# Altium integrated library ST Microcontroller 8-Bit.IntLib: 1326 symbols (part 8 of 45)
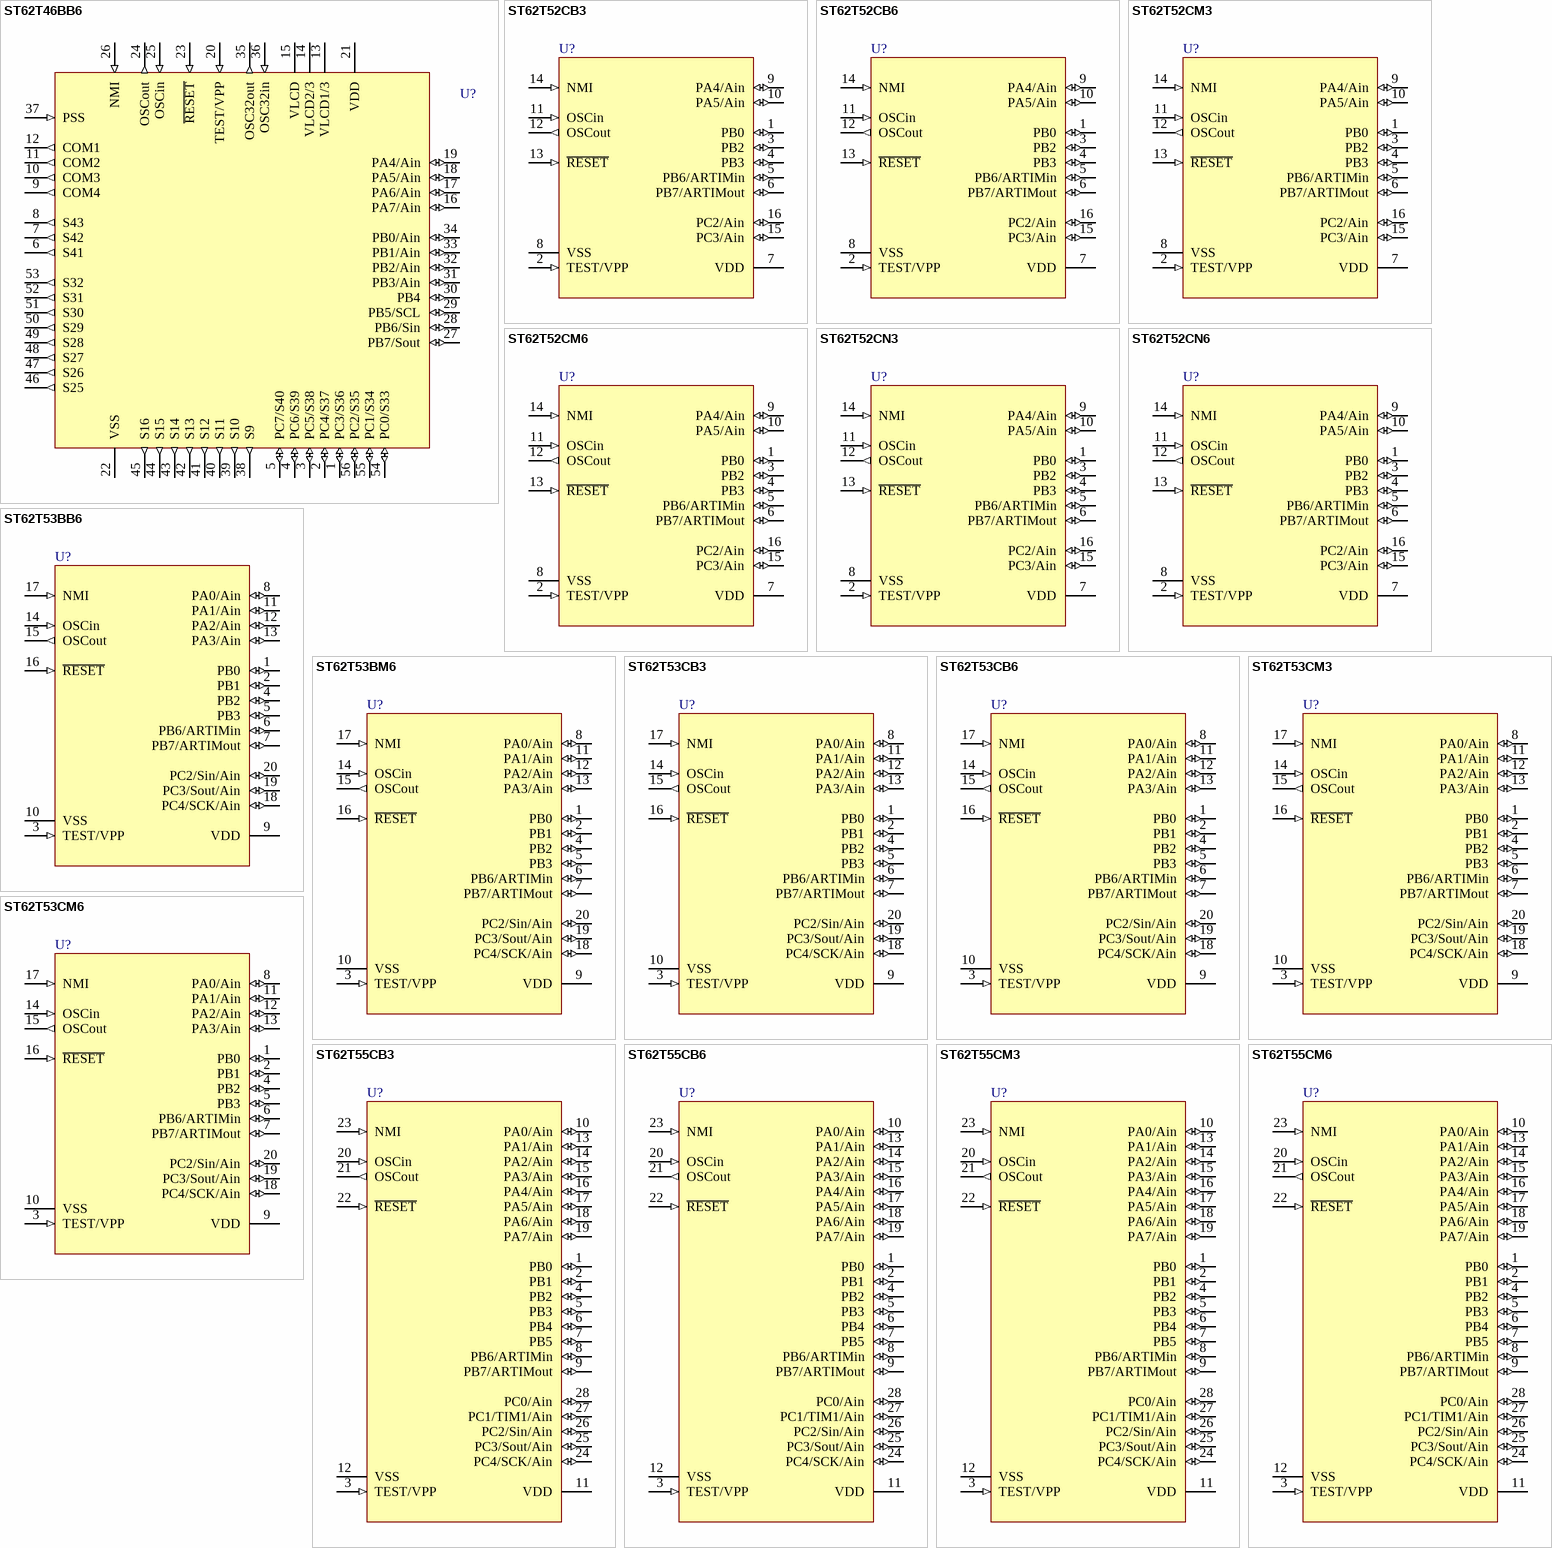
[diagram p174: symbols ST62T46BB6 to ST62T55CM6]

## ST62T46BB6
designator U?
8-Bit OTP MCU with LCD Driver, EEPROM and A/D Converter, 56-Pin PDIP, Industrial; Note: Pins 27 to 30 can also sink 20mA for direct LED or TRIAC drive.; Published: 26-May-2004; LatestRevisionDate: 06-Jun-2005; LatestRevisionNote: Stylized 3D Model Added.; DatasheetVersion: rev2.6, Jul-2001; PackageVersion: Jan-2002; PackageReference: PSDIP56; Publisher: Altium Limited; PackageDescription: DIP, Plastic Shrink; 56 Leads; Row Spacing 15.24 mm; Pitch 1.78 mm; ComponentLink1Description: Manufacturer Link; ComponentLink1URL: http://www.st.com/; ComponentLink2Description: Datasheet; ComponentLink2URL: http://www.st.com/stonline/products/literature/ds/4994/st6246b.pdf
footprint PSDIP56 (DIP, Plastic Shrink; 56 Leads; Row Spacing 15.24 mm; Pitch 1.78 mm)
3D model PSDIP56 (DIP, Plastic Shrink; 56 Leads; Row Spacing 15.24 mm; Pitch 1.78 mm)
pins: 1 PC3/S36 (io), 2 PC4/S37 (io), 3 PC5/S38 (io), 4 PC6/S39 (io), 5 PC7/S40 (io), 6 S41 (out), 7 S42 (out), 8 S43 (out), 9 COM4 (out), 10 COM3 (out), 11 COM2 (out), 12 COM1 (out), 13 VLCD1/3 (power), 14 VLCD2/3 (power), 15 VLCD (power), 16 PA7/Ain (io), 17 PA6/Ain (io), 18 PA5/Ain (io), 19 PA4/Ain (io), 20 TEST/VPP (in), 21 VDD (power), 22 VSS (power), 23 ~{RESET} (in), 24 OSCout (out), 25 OSCin (in), 26 NMI (in), 27 PB7/Sout (io), 28 PB6/Sin (io), 29 PB5/SCL (io), 30 PB4 (io), 31 PB3/Ain (io), 32 PB2/Ain (io), 33 PB1/Ain (io), 34 PB0/Ain (io), 35 OSC32out (out), 36 OSC32in (in), 37 PSS (in), 38 S9 (out), 39 S10 (out), 40 S11 (out), 41 S12 (out), 42 S13 (out), 43 S14 (out), 44 S15 (out), 45 S16 (out), 46 S25 (out), 47 S26 (out), 48 S27 (out), 49 S28 (out), 50 S29 (out), 51 S30 (out), 52 S31 (out), 53 S32 (out), 54 PC0/S33 (io), 55 PC1/S34 (io), 56 PC2/S35 (io)

## ST62T52CB3
designator U?
8-Bit OTP MCU with A/D Converter, Safe Reset, Auto-Reload Timer and EEPROM, 16-Pin PDIP, Automotive; Note: Pins 3 to 5 can also sink 20mA for direct LED or TRIAC drive.; Published: 26-May-2004; LatestRevisionDate: 06-Jun-2005; LatestRevisionNote: Stylized 3D Model Added.; DatasheetVersion: rev3.0, Feb-2002; PackageVersion: Dec-2003; PackageReference: PDIP16; Publisher: Altium Limited; PackageDescription: DIP; 16 Leads; Row Spacing 7.62 mm; Pitch 2.54 mm; ComponentLink1Description: Manufacturer Link; ComponentLink1URL: http://www.st.com/; ComponentLink2Description: Datasheet; ComponentLink2URL: http://www.st.com/stonline/products/literature/ds/6217/st6252c.pdf
footprint PDIP16 (DIP; 16 Leads; Row Spacing 7.62 mm; Pitch 2.54 mm)
3D model PDIP16 (DIP; 16 Leads; Row Spacing 7.62 mm; Pitch 2.54 mm)
pins: 1 PB0 (io), 2 TEST/VPP (in), 3 PB2 (io), 4 PB3 (io), 5 PB6/ARTIMin (io), 6 PB7/ARTIMout (io), 7 VDD (power), 8 VSS (power), 9 PA4/Ain (io), 10 PA5/Ain (io), 11 OSCin (in), 12 OSCout (out), 13 ~{RESET} (in), 14 NMI (in), 15 PC3/Ain (io), 16 PC2/Ain (io)

## ST62T52CB6
designator U?
8-Bit OTP MCU with A/D Converter, Safe Reset, Auto-Reload Timer and EEPROM, 16-Pin PDIP, Industrial; Note: Pins 3 to 5 can also sink 20mA for direct LED or TRIAC drive.; Published: 26-May-2004; LatestRevisionDate: 06-Jun-2005; LatestRevisionNote: Stylized 3D Model Added.; DatasheetVersion: rev3.0, Feb-2002; PackageVersion: Dec-2003; PackageReference: PDIP16; Publisher: Altium Limited; PackageDescription: DIP; 16 Leads; Row Spacing 7.62 mm; Pitch 2.54 mm; ComponentLink1Description: Manufacturer Link; ComponentLink1URL: http://www.st.com/; ComponentLink2Description: Datasheet; ComponentLink2URL: http://www.st.com/stonline/products/literature/ds/6217/st6252c.pdf
footprint PDIP16 (DIP; 16 Leads; Row Spacing 7.62 mm; Pitch 2.54 mm)
3D model PDIP16 (DIP; 16 Leads; Row Spacing 7.62 mm; Pitch 2.54 mm)
pins: 1 PB0 (io), 2 TEST/VPP (in), 3 PB2 (io), 4 PB3 (io), 5 PB6/ARTIMin (io), 6 PB7/ARTIMout (io), 7 VDD (power), 8 VSS (power), 9 PA4/Ain (io), 10 PA5/Ain (io), 11 OSCin (in), 12 OSCout (out), 13 ~{RESET} (in), 14 NMI (in), 15 PC3/Ain (io), 16 PC2/Ain (io)

## ST62T52CM3
designator U?
8-Bit OTP MCU with A/D Converter, Safe Reset, Auto-Reload Timer and EEPROM, 16-Pin SOIC, Automotive; Note: Pins 3 to 5 can also sink 20mA for direct LED or TRIAC drive.; Published: 26-May-2004; LatestRevisionDate: 13-Apr-2006; LatestRevisionNote: IPC-7351 Footprint Added.; DatasheetVersion: rev3.0, Feb-2002; PackageVersion: Apr-1998; PackageReference: SO16W; Publisher: Altium Limited; PackageDescription: 16-Pin Small Outline Integrated Circuit 1.27 mm Pitch; Code_JEDEC: MS-013-AA; Code_IPC: SOIC127P1030-16; ComponentLink1Description: Manufacturer Link; ComponentLink1URL: http://www.st.com/; ComponentLink2Description: Datasheet; ComponentLink2URL: http://www.st.com/stonline/products/literature/ds/6217/st6252c.pdf
footprint SO16W_N (SOIC, 16-Leads, Body 10.3x7.5mm, Pitch 1.27mm, IPC Medium Density)
footprint SO16W_L (SOIC, 16-Leads, Body 10.3x7.5mm, Pitch 1.27mm, IPC High Density)
footprint SO16W_M (SOIC, 16-Leads, Body 10.3x7.5mm, Pitch 1.27mm, IPC Low Density)
3D model SO16W (16-Pin Small Outline Integrated Circuit 1.27 mm Pitch)
pins: 1 PB0 (io), 2 TEST/VPP (in), 3 PB2 (io), 4 PB3 (io), 5 PB6/ARTIMin (io), 6 PB7/ARTIMout (io), 7 VDD (power), 8 VSS (power), 9 PA4/Ain (io), 10 PA5/Ain (io), 11 OSCin (in), 12 OSCout (out), 13 ~{RESET} (in), 14 NMI (in), 15 PC3/Ain (io), 16 PC2/Ain (io)

## ST62T52CM6
designator U?
8-Bit OTP MCU with A/D Converter, Safe Reset, Auto-Reload Timer and EEPROM, 16-Pin SOIC, Industrial; Note: Pins 3 to 5 can also sink 20mA for direct LED or TRIAC drive.; Published: 26-May-2004; LatestRevisionDate: 13-Apr-2006; LatestRevisionNote: IPC-7351 Footprint Added.; DatasheetVersion: rev3.0, Feb-2002; PackageVersion: Apr-1998; PackageReference: SO16W; Publisher: Altium Limited; PackageDescription: 16-Pin Small Outline Integrated Circuit 1.27 mm Pitch; Code_JEDEC: MS-013-AA; Code_IPC: SOIC127P1030-16; ComponentLink1Description: Manufacturer Link; ComponentLink1URL: http://www.st.com/; ComponentLink2Description: Datasheet; ComponentLink2URL: http://www.st.com/stonline/products/literature/ds/6217/st6252c.pdf
footprint SO16W_N (SOIC, 16-Leads, Body 10.3x7.5mm, Pitch 1.27mm, IPC Medium Density)
footprint SO16W_L (SOIC, 16-Leads, Body 10.3x7.5mm, Pitch 1.27mm, IPC High Density)
footprint SO16W_M (SOIC, 16-Leads, Body 10.3x7.5mm, Pitch 1.27mm, IPC Low Density)
3D model SO16W (16-Pin Small Outline Integrated Circuit 1.27 mm Pitch)
pins: 1 PB0 (io), 2 TEST/VPP (in), 3 PB2 (io), 4 PB3 (io), 5 PB6/ARTIMin (io), 6 PB7/ARTIMout (io), 7 VDD (power), 8 VSS (power), 9 PA4/Ain (io), 10 PA5/Ain (io), 11 OSCin (in), 12 OSCout (out), 13 ~{RESET} (in), 14 NMI (in), 15 PC3/Ain (io), 16 PC2/Ain (io)

## ST62T52CN3
designator U?
8-Bit OTP MCU with A/D Converter, Safe Reset, Auto-Reload Timer and EEPROM, 16-Pin SSOP, Automotive; Note: Pins 3 to 5 can also sink 20mA for direct LED or TRIAC drive.; Published: 26-May-2004; LatestRevisionDate: 06-Jun-2005; LatestRevisionNote: Stylized 3D Model Added.; DatasheetVersion: rev3.0, Feb-2002; PackageVersion: Oct-2003; PackageReference: SSOP16; Publisher: Altium Limited; PackageDescription: SSOP, Plastic; 16 Leads; Body Width 5.3 mm; Pitch 0.65 mm; ComponentLink1Description: Manufacturer Link; ComponentLink1URL: http://www.st.com/; ComponentLink2Description: Datasheet; ComponentLink2URL: http://www.st.com/stonline/products/literature/ds/6217/st6252c.pdf
footprint SSOP16 (SSOP, Plastic; 16 Leads; Body Width 5.3 mm; Pitch 0.65 mm)
3D model SSOP16 (SSOP, Plastic; 16 Leads; Body Width 5.3 mm; Pitch 0.65 mm)
pins: 1 PB0 (io), 2 TEST/VPP (in), 3 PB2 (io), 4 PB3 (io), 5 PB6/ARTIMin (io), 6 PB7/ARTIMout (io), 7 VDD (power), 8 VSS (power), 9 PA4/Ain (io), 10 PA5/Ain (io), 11 OSCin (in), 12 OSCout (out), 13 ~{RESET} (in), 14 NMI (in), 15 PC3/Ain (io), 16 PC2/Ain (io)

## ST62T52CN6
designator U?
8-Bit OTP MCU with A/D Converter, Safe Reset, Auto-Reload Timer and EEPROM, 16-Pin SSOP, Industrial; Note: Pins 3 to 5 can also sink 20mA for direct LED or TRIAC drive.; Published: 26-May-2004; LatestRevisionDate: 06-Jun-2005; LatestRevisionNote: Stylized 3D Model Added.; DatasheetVersion: rev3.0, Feb-2002; PackageVersion: Oct-2003; PackageReference: SSOP16; Publisher: Altium Limited; PackageDescription: SSOP, Plastic; 16 Leads; Body Width 5.3 mm; Pitch 0.65 mm; ComponentLink1Description: Manufacturer Link; ComponentLink1URL: http://www.st.com/; ComponentLink2Description: Datasheet; ComponentLink2URL: http://www.st.com/stonline/products/literature/ds/6217/st6252c.pdf
footprint SSOP16 (SSOP, Plastic; 16 Leads; Body Width 5.3 mm; Pitch 0.65 mm)
3D model SSOP16 (SSOP, Plastic; 16 Leads; Body Width 5.3 mm; Pitch 0.65 mm)
pins: 1 PB0 (io), 2 TEST/VPP (in), 3 PB2 (io), 4 PB3 (io), 5 PB6/ARTIMin (io), 6 PB7/ARTIMout (io), 7 VDD (power), 8 VSS (power), 9 PA4/Ain (io), 10 PA5/Ain (io), 11 OSCin (in), 12 OSCout (out), 13 ~{RESET} (in), 14 NMI (in), 15 PC3/Ain (io), 16 PC2/Ain (io)

## ST62T53BB6
designator U?
8-Bit OTP MCU with A/D Converter, Auto-Reload Timer, EEPROM and SPI; Published: 24-Aug-2001; LatestRevisionDate: 06-Jun-2005; LatestRevisionNote: Stylized 3D Model Added.; DatasheetVersion: Apr-1998; PackageVersion: Jun-1998; PackageReference: DIP20; Publisher: Altium Limited; PackageDescription: DIP; 20 Leads; Row Spacing 7.62 mm; Pitch 2.54 mm; Code_JEDEC: MS-015-AE; ComponentLink1Description: Manufacturer Link; ComponentLink1URL: http://www.st.com/
footprint DIP20 (DIP; 20 Leads; Row Spacing 7.62 mm; Pitch 2.54 mm)
3D model DIP20 (DIP; 20 Leads; Row Spacing 7.62 mm; Pitch 2.54 mm)
pins: 1 PB0 (io), 2 PB1 (io), 3 TEST/VPP (in), 4 PB2 (io), 5 PB3 (io), 6 PB6/ARTIMin (io), 7 PB7/ARTIMout (io), 8 PA0/Ain (io), 9 VDD (power), 10 VSS (power), 11 PA1/Ain (io), 12 PA2/Ain (io), 13 PA3/Ain (io), 14 OSCin (in), 15 OSCout (out), 16 ~{RESET} (in), 17 NMI (in), 18 PC4/SCK/Ain (io), 19 PC3/Sout/Ain (io), 20 PC2/Sin/Ain (io)

## ST62T53BM6
designator U?
8-Bit OTP MCU with A/D Converter, Auto-Reload Timer, EEPROM and SPI; Published: 24-Aug-2001; LatestRevisionDate: 13-Apr-2006; LatestRevisionNote: IPC-7351 Footprint Added.; DatasheetVersion: Apr-1998; PackageVersion: Jul-2001; PackageReference: SO20; Publisher: Altium Limited; PackageDescription: 20-Pin Plastic Small Outline Integrated Circuit 1.27 mm Pitch; Code_JEDEC: MS-013-AC; Code_IPC: SOIC127P1030-20; ComponentLink1Description: Manufacturer Link; ComponentLink1URL: http://www.st.com/
footprint SO20_N (SOIC, 20-Leads, Body 12.8x7.5mm, Pitch 1.27mm, IPC Medium Density)
footprint SO20_L (SOIC, 20-Leads, Body 12.8x7.5mm, Pitch 1.27mm, IPC High Density)
footprint SO20_M (SOIC, 20-Leads, Body 12.8x7.5mm, Pitch 1.27mm, IPC Low Density)
3D model SO20 (20-Pin Plastic Small Outline Integrated Circuit 1.27 mm Pitch)
pins: 1 PB0 (io), 2 PB1 (io), 3 TEST/VPP (in), 4 PB2 (io), 5 PB3 (io), 6 PB6/ARTIMin (io), 7 PB7/ARTIMout (io), 8 PA0/Ain (io), 9 VDD (power), 10 VSS (power), 11 PA1/Ain (io), 12 PA2/Ain (io), 13 PA3/Ain (io), 14 OSCin (in), 15 OSCout (out), 16 ~{RESET} (in), 17 NMI (in), 18 PC4/SCK/Ain (io), 19 PC3/Sout/Ain (io), 20 PC2/Sin/Ain (io)

## ST62T53CB3
designator U?
8-Bit OTP MCU with A/D Converter, Safe Reset, Auto-Reload Timer, EEPROM and SPI, 20-Pin PDIP, Automotive; Note: Pins 1, 2, 4 and 5 can also sink 30mA for direct LED or TRIAC drive.; Published: 26-May-2004; LatestRevisionDate: 06-Jun-2005; LatestRevisionNote: Stylized 3D Model Added.; DatasheetVersion: rev2.8, Jul-2001; PackageVersion: Jul-2003; PackageReference: PDIP20; Publisher: Altium Limited; PackageDescription: DIP; 20 Leads; Row Spacing 7.62 mm; Pitch 2.54 mm; Code_JEDEC: MS-001-AD; ComponentLink1Description: Manufacturer Link; ComponentLink1URL: http://www.st.com/; ComponentLink2Description: Datasheet; ComponentLink2URL: http://www.st.com/stonline/products/literature/ds/6215/st6253c.pdf
footprint PDIP20 (DIP; 20 Leads; Row Spacing 7.62 mm; Pitch 2.54 mm)
3D model PDIP20 (DIP; 20 Leads; Row Spacing 7.62 mm; Pitch 2.54 mm)
pins: 1 PB0 (io), 2 PB1 (io), 3 TEST/VPP (in), 4 PB2 (io), 5 PB3 (io), 6 PB6/ARTIMin (io), 7 PB7/ARTIMout (io), 8 PA0/Ain (io), 9 VDD (power), 10 VSS (power), 11 PA1/Ain (io), 12 PA2/Ain (io), 13 PA3/Ain (io), 14 OSCin (in), 15 OSCout (out), 16 ~{RESET} (in), 17 NMI (in), 18 PC4/SCK/Ain (io), 19 PC3/Sout/Ain (io), 20 PC2/Sin/Ain (io)

## ST62T53CB6
designator U?
8-Bit OTP MCU with A/D Converter, Safe Reset, Auto-Reload Timer, EEPROM and SPI, 20-Pin PDIP, Industrial; Note: Pins 1, 2, 4 and 5 can also sink 30mA for direct LED or TRIAC drive.; Published: 26-May-2004; LatestRevisionDate: 06-Jun-2005; LatestRevisionNote: Stylized 3D Model Added.; DatasheetVersion: rev2.8, Jul-2001; PackageVersion: Jul-2003; PackageReference: PDIP20; Publisher: Altium Limited; PackageDescription: DIP; 20 Leads; Row Spacing 7.62 mm; Pitch 2.54 mm; Code_JEDEC: MS-001-AD; ComponentLink1Description: Manufacturer Link; ComponentLink1URL: http://www.st.com/; ComponentLink2Description: Datasheet; ComponentLink2URL: http://www.st.com/stonline/products/literature/ds/6215/st6253c.pdf
footprint PDIP20 (DIP; 20 Leads; Row Spacing 7.62 mm; Pitch 2.54 mm)
3D model PDIP20 (DIP; 20 Leads; Row Spacing 7.62 mm; Pitch 2.54 mm)
pins: 1 PB0 (io), 2 PB1 (io), 3 TEST/VPP (in), 4 PB2 (io), 5 PB3 (io), 6 PB6/ARTIMin (io), 7 PB7/ARTIMout (io), 8 PA0/Ain (io), 9 VDD (power), 10 VSS (power), 11 PA1/Ain (io), 12 PA2/Ain (io), 13 PA3/Ain (io), 14 OSCin (in), 15 OSCout (out), 16 ~{RESET} (in), 17 NMI (in), 18 PC4/SCK/Ain (io), 19 PC3/Sout/Ain (io), 20 PC2/Sin/Ain (io)

## ST62T53CM3
designator U?
8-Bit OTP MCU with A/D Converter, Safe Reset, Auto-Reload Timer, EEPROM and SPI, 20-Pin SOIC, Automotive; Note: Pins 1, 2, 4 and 5 can also sink 30mA for direct LED or TRIAC drive.; Published: 26-May-2004; LatestRevisionDate: 13-Apr-2006; LatestRevisionNote: IPC-7351 Footprint Added.; DatasheetVersion: rev2.8, Jul-2001; PackageVersion: Jul-2001; PackageReference: SO20; Publisher: Altium Limited; PackageDescription: 20-Pin Plastic Small Outline Integrated Circuit 1.27 mm Pitch; Code_JEDEC: MS-013-AC; Code_IPC: SOIC127P1030-20; ComponentLink1Description: Manufacturer Link; ComponentLink1URL: http://www.st.com/; ComponentLink2Description: Datasheet; ComponentLink2URL: http://www.st.com/stonline/products/literature/ds/6215/st6253c.pdf
footprint SO20_N (SOIC, 20-Leads, Body 12.8x7.5mm, Pitch 1.27mm, IPC Medium Density)
footprint SO20_L (SOIC, 20-Leads, Body 12.8x7.5mm, Pitch 1.27mm, IPC High Density)
footprint SO20_M (SOIC, 20-Leads, Body 12.8x7.5mm, Pitch 1.27mm, IPC Low Density)
3D model SO20 (20-Pin Plastic Small Outline Integrated Circuit 1.27 mm Pitch)
pins: 1 PB0 (io), 2 PB1 (io), 3 TEST/VPP (in), 4 PB2 (io), 5 PB3 (io), 6 PB6/ARTIMin (io), 7 PB7/ARTIMout (io), 8 PA0/Ain (io), 9 VDD (power), 10 VSS (power), 11 PA1/Ain (io), 12 PA2/Ain (io), 13 PA3/Ain (io), 14 OSCin (in), 15 OSCout (out), 16 ~{RESET} (in), 17 NMI (in), 18 PC4/SCK/Ain (io), 19 PC3/Sout/Ain (io), 20 PC2/Sin/Ain (io)

## ST62T53CM6
designator U?
8-Bit OTP MCU with A/D Converter, Safe Reset, Auto-Reload Timer, EEPROM and SPI, 20-Pin SOIC, Industrial; Note: Pins 1, 2, 4 and 5 can also sink 30mA for direct LED or TRIAC drive.; Published: 26-May-2004; LatestRevisionDate: 13-Apr-2006; LatestRevisionNote: IPC-7351 Footprint Added.; DatasheetVersion: rev2.8, Jul-2001; PackageVersion: Jul-2001; PackageReference: SO20; Publisher: Altium Limited; PackageDescription: 20-Pin Plastic Small Outline Integrated Circuit 1.27 mm Pitch; Code_JEDEC: MS-013-AC; Code_IPC: SOIC127P1030-20; ComponentLink1Description: Manufacturer Link; ComponentLink1URL: http://www.st.com/; ComponentLink2Description: Datasheet; ComponentLink2URL: http://www.st.com/stonline/products/literature/ds/6215/st6253c.pdf
footprint SO20_N (SOIC, 20-Leads, Body 12.8x7.5mm, Pitch 1.27mm, IPC Medium Density)
footprint SO20_L (SOIC, 20-Leads, Body 12.8x7.5mm, Pitch 1.27mm, IPC High Density)
footprint SO20_M (SOIC, 20-Leads, Body 12.8x7.5mm, Pitch 1.27mm, IPC Low Density)
3D model SO20 (20-Pin Plastic Small Outline Integrated Circuit 1.27 mm Pitch)
pins: 1 PB0 (io), 2 PB1 (io), 3 TEST/VPP (in), 4 PB2 (io), 5 PB3 (io), 6 PB6/ARTIMin (io), 7 PB7/ARTIMout (io), 8 PA0/Ain (io), 9 VDD (power), 10 VSS (power), 11 PA1/Ain (io), 12 PA2/Ain (io), 13 PA3/Ain (io), 14 OSCin (in), 15 OSCout (out), 16 ~{RESET} (in), 17 NMI (in), 18 PC4/SCK/Ain (io), 19 PC3/Sout/Ain (io), 20 PC2/Sin/Ain (io)

## ST62T55CB3
designator U?
8-Bit OTP MCU with A/D Converter, Safe Reset, Auto-Reload Timer, EEPROM and SPI, 28-Pin PDIP, Automotive; Note: Pins 1, 2 and 4-7 can also sink 30mA for direct LED or TRIAC drive.; Published: 26-May-2004; LatestRevisionDate: 06-Jun-2005; LatestRevisionNote: Stylized 3D Model Added.; DatasheetVersion: rev2.9, Jul-2001; PackageVersion: Oct-2003; PackageReference: DIP28; Publisher: Altium Limited; PackageDescription: DIP; 28 Leads; Row Spacing 15.24 mm; Pitch 2.54 mm; Code_JEDEC: MS-011-AB; ComponentLink1Description: Manufacturer Link; ComponentLink1URL: http://www.st.com/; ComponentLink2Description: Datasheet; ComponentLink2URL: http://www.st.com/stonline/products/literature/ds/6220/st6255c.pdf
footprint DIP28 (DIP; 28 Leads; Row Spacing 15.24 mm; Pitch 2.54 mm)
3D model DIP28 (DIP; 28 Leads; Row Spacing 15.24 mm; Pitch 2.54 mm)
pins: 1 PB0 (io), 2 PB1 (io), 3 TEST/VPP (in), 4 PB2 (io), 5 PB3 (io), 6 PB4 (io), 7 PB5 (io), 8 PB6/ARTIMin (io), 9 PB7/ARTIMout (io), 10 PA0/Ain (io), 11 VDD (power), 12 VSS (power), 13 PA1/Ain (io), 14 PA2/Ain (io), 15 PA3/Ain (io), 16 PA4/Ain (io), 17 PA5/Ain (io), 18 PA6/Ain (io), 19 PA7/Ain (io), 20 OSCin (in), 21 OSCout (out), 22 ~{RESET} (in), 23 NMI (in), 24 PC4/SCK/Ain (io), 25 PC3/Sout/Ain (io), 26 PC2/Sin/Ain (io), 27 PC1/TIM1/Ain (io), 28 PC0/Ain (io)

## ST62T55CB6
designator U?
8-Bit OTP MCU with A/D Converter, Safe Reset, Auto-Reload Timer, EEPROM and SPI, 28-Pin PDIP, Industrial; Note: Pins 1, 2 and 4-7 can also sink 30mA for direct LED or TRIAC drive.; Published: 26-May-2004; LatestRevisionDate: 06-Jun-2005; LatestRevisionNote: Stylized 3D Model Added.; DatasheetVersion: rev2.9, Jul-2001; PackageVersion: Oct-2003; PackageReference: DIP28; Publisher: Altium Limited; PackageDescription: DIP; 28 Leads; Row Spacing 15.24 mm; Pitch 2.54 mm; Code_JEDEC: MS-011-AB; ComponentLink1Description: Manufacturer Link; ComponentLink1URL: http://www.st.com/; ComponentLink2Description: Datasheet; ComponentLink2URL: http://www.st.com/stonline/products/literature/ds/6220/st6255c.pdf
footprint DIP28 (DIP; 28 Leads; Row Spacing 15.24 mm; Pitch 2.54 mm)
3D model DIP28 (DIP; 28 Leads; Row Spacing 15.24 mm; Pitch 2.54 mm)
pins: 1 PB0 (io), 2 PB1 (io), 3 TEST/VPP (in), 4 PB2 (io), 5 PB3 (io), 6 PB4 (io), 7 PB5 (io), 8 PB6/ARTIMin (io), 9 PB7/ARTIMout (io), 10 PA0/Ain (io), 11 VDD (power), 12 VSS (power), 13 PA1/Ain (io), 14 PA2/Ain (io), 15 PA3/Ain (io), 16 PA4/Ain (io), 17 PA5/Ain (io), 18 PA6/Ain (io), 19 PA7/Ain (io), 20 OSCin (in), 21 OSCout (out), 22 ~{RESET} (in), 23 NMI (in), 24 PC4/SCK/Ain (io), 25 PC3/Sout/Ain (io), 26 PC2/Sin/Ain (io), 27 PC1/TIM1/Ain (io), 28 PC0/Ain (io)

## ST62T55CM3
designator U?
8-Bit OTP MCU with A/D Converter, Safe Reset, Auto-Reload Timer, EEPROM and SPI, 28-Pin SOIC, Automotive; Note: Pins 1, 2 and 4-7 can also sink 30mA for direct LED or TRIAC drive.; Published: 26-May-2004; LatestRevisionDate: 13-Apr-2006; LatestRevisionNote: IPC-7351 Footprint Added.; DatasheetVersion: rev2.9, Jul-2001; PackageVersion: Jul-2001; PackageReference: SO28; Publisher: Altium Limited; PackageDescription: 28-Pin Plastic Small Outline Integrated Circuit 1.27 mm Pitch; ComponentLink1Description: Manufacturer Link; ComponentLink1URL: http://www.st.com/; ComponentLink2Description: Datasheet; ComponentLink2URL: http://www.st.com/stonline/products/literature/ds/6220/st6255c.pdf
footprint SO28_N (SOIC, 28-Leads, Body 17.9x7.5mm, Pitch 1.27mm, IPC Medium Density)
footprint SO28_L (SOIC, 28-Leads, Body 17.9x7.5mm, Pitch 1.27mm, IPC High Density)
footprint SO28_M (SOIC, 28-Leads, Body 17.9x7.5mm, Pitch 1.27mm, IPC Low Density)
3D model SO28 (28-Pin Plastic Small Outline Integrated Circuit 1.27 mm Pitch)
pins: 1 PB0 (io), 2 PB1 (io), 3 TEST/VPP (in), 4 PB2 (io), 5 PB3 (io), 6 PB4 (io), 7 PB5 (io), 8 PB6/ARTIMin (io), 9 PB7/ARTIMout (io), 10 PA0/Ain (io), 11 VDD (power), 12 VSS (power), 13 PA1/Ain (io), 14 PA2/Ain (io), 15 PA3/Ain (io), 16 PA4/Ain (io), 17 PA5/Ain (io), 18 PA6/Ain (io), 19 PA7/Ain (io), 20 OSCin (in), 21 OSCout (out), 22 ~{RESET} (in), 23 NMI (in), 24 PC4/SCK/Ain (io), 25 PC3/Sout/Ain (io), 26 PC2/Sin/Ain (io), 27 PC1/TIM1/Ain (io), 28 PC0/Ain (io)

## ST62T55CM6
designator U?
8-Bit OTP MCU with A/D Converter, Safe Reset, Auto-Reload Timer, EEPROM and SPI, 28-Pin SOIC, Industrial; Note: Pins 1, 2 and 4-7 can also sink 30mA for direct LED or TRIAC drive.; Published: 26-May-2004; LatestRevisionDate: 13-Apr-2006; LatestRevisionNote: IPC-7351 Footprint Added.; DatasheetVersion: rev2.9, Jul-2001; PackageVersion: Jul-2001; PackageReference: SO28; Publisher: Altium Limited; PackageDescription: 28-Pin Plastic Small Outline Integrated Circuit 1.27 mm Pitch; ComponentLink1Description: Manufacturer Link; ComponentLink1URL: http://www.st.com/; ComponentLink2Description: Datasheet; ComponentLink2URL: http://www.st.com/stonline/products/literature/ds/6220/st6255c.pdf
footprint SO28_N (SOIC, 28-Leads, Body 17.9x7.5mm, Pitch 1.27mm, IPC Medium Density)
footprint SO28_L (SOIC, 28-Leads, Body 17.9x7.5mm, Pitch 1.27mm, IPC High Density)
footprint SO28_M (SOIC, 28-Leads, Body 17.9x7.5mm, Pitch 1.27mm, IPC Low Density)
3D model SO28 (28-Pin Plastic Small Outline Integrated Circuit 1.27 mm Pitch)
pins: 1 PB0 (io), 2 PB1 (io), 3 TEST/VPP (in), 4 PB2 (io), 5 PB3 (io), 6 PB4 (io), 7 PB5 (io), 8 PB6/ARTIMin (io), 9 PB7/ARTIMout (io), 10 PA0/Ain (io), 11 VDD (power), 12 VSS (power), 13 PA1/Ain (io), 14 PA2/Ain (io), 15 PA3/Ain (io), 16 PA4/Ain (io), 17 PA5/Ain (io), 18 PA6/Ain (io), 19 PA7/Ain (io), 20 OSCin (in), 21 OSCout (out), 22 ~{RESET} (in), 23 NMI (in), 24 PC4/SCK/Ain (io), 25 PC3/Sout/Ain (io), 26 PC2/Sin/Ain (io), 27 PC1/TIM1/Ain (io), 28 PC0/Ain (io)

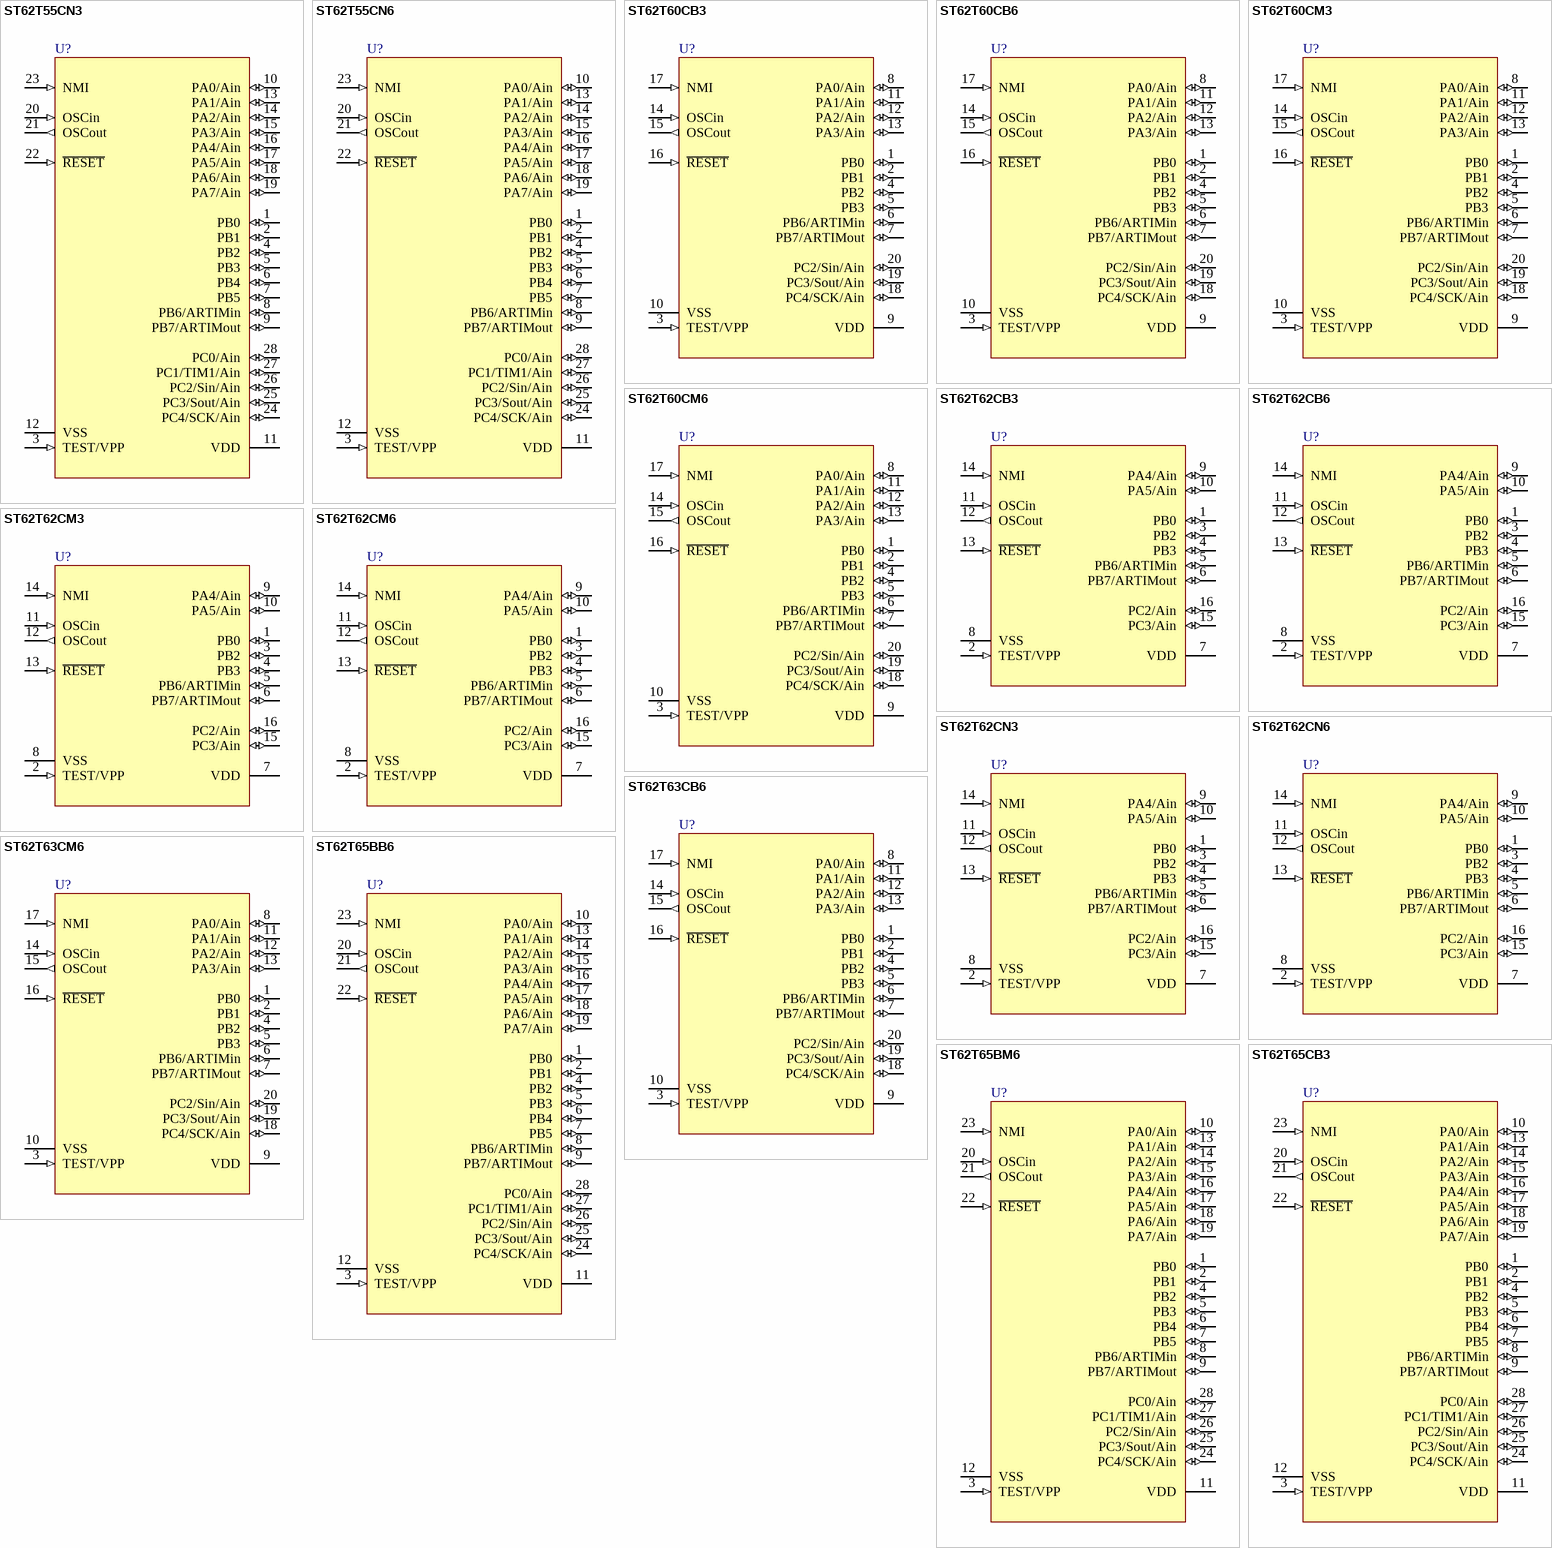
[diagram p19: symbols ST62T55CN3 to ST62T65CB3]

## ST62T55CN3
designator U?
8-Bit OTP MCU with A/D Converter, Safe Reset, Auto-Reload Timer, EEPROM and SPI, 28-Pin SSOP, Automotive; Note: Pins 1, 2 and 4-7 can also sink 30mA for direct LED or TRIAC drive.; Published: 26-May-2004; LatestRevisionDate: 06-Jun-2005; LatestRevisionNote: Stylized 3D Model Added.; DatasheetVersion: rev2.9, Jul-2001; PackageVersion: Jul-2001; PackageReference: SSOP28W; Publisher: Altium Limited; PackageDescription: SSOP, Plastic; 28 Leads; Body Width 5.3 mm; Pitch 0.65 mm; ComponentLink1Description: Manufacturer Link; ComponentLink1URL: http://www.st.com/; ComponentLink2Description: Datasheet; ComponentLink2URL: http://www.st.com/stonline/products/literature/ds/6220/st6255c.pdf
footprint SSOP28W (SSOP, Plastic; 28 Leads; Body Width 5.3 mm; Pitch 0.65 mm)
3D model SSOP28W (SSOP, Plastic; 28 Leads; Body Width 5.3 mm; Pitch 0.65 mm)
pins: 1 PB0 (io), 2 PB1 (io), 3 TEST/VPP (in), 4 PB2 (io), 5 PB3 (io), 6 PB4 (io), 7 PB5 (io), 8 PB6/ARTIMin (io), 9 PB7/ARTIMout (io), 10 PA0/Ain (io), 11 VDD (power), 12 VSS (power), 13 PA1/Ain (io), 14 PA2/Ain (io), 15 PA3/Ain (io), 16 PA4/Ain (io), 17 PA5/Ain (io), 18 PA6/Ain (io), 19 PA7/Ain (io), 20 OSCin (in), 21 OSCout (out), 22 ~{RESET} (in), 23 NMI (in), 24 PC4/SCK/Ain (io), 25 PC3/Sout/Ain (io), 26 PC2/Sin/Ain (io), 27 PC1/TIM1/Ain (io), 28 PC0/Ain (io)

## ST62T55CN6
designator U?
8-Bit OTP MCU with A/D Converter, Safe Reset, Auto-Reload Timer, EEPROM and SPI, 28-Pin SSOP, Industrial; Note: Pins 1, 2 and 4-7 can also sink 30mA for direct LED or TRIAC drive.; Published: 26-May-2004; LatestRevisionDate: 06-Jun-2005; LatestRevisionNote: Stylized 3D Model Added.; DatasheetVersion: rev2.9, Jul-2001; PackageVersion: Jul-2001; PackageReference: SSOP28W; Publisher: Altium Limited; PackageDescription: SSOP, Plastic; 28 Leads; Body Width 5.3 mm; Pitch 0.65 mm; ComponentLink1Description: Manufacturer Link; ComponentLink1URL: http://www.st.com/; ComponentLink2Description: Datasheet; ComponentLink2URL: http://www.st.com/stonline/products/literature/ds/6220/st6255c.pdf
footprint SSOP28W (SSOP, Plastic; 28 Leads; Body Width 5.3 mm; Pitch 0.65 mm)
3D model SSOP28W (SSOP, Plastic; 28 Leads; Body Width 5.3 mm; Pitch 0.65 mm)
pins: 1 PB0 (io), 2 PB1 (io), 3 TEST/VPP (in), 4 PB2 (io), 5 PB3 (io), 6 PB4 (io), 7 PB5 (io), 8 PB6/ARTIMin (io), 9 PB7/ARTIMout (io), 10 PA0/Ain (io), 11 VDD (power), 12 VSS (power), 13 PA1/Ain (io), 14 PA2/Ain (io), 15 PA3/Ain (io), 16 PA4/Ain (io), 17 PA5/Ain (io), 18 PA6/Ain (io), 19 PA7/Ain (io), 20 OSCin (in), 21 OSCout (out), 22 ~{RESET} (in), 23 NMI (in), 24 PC4/SCK/Ain (io), 25 PC3/Sout/Ain (io), 26 PC2/Sin/Ain (io), 27 PC1/TIM1/Ain (io), 28 PC0/Ain (io)

## ST62T60CB3
designator U?
8-Bit OTP MCU with A/D Converter, Safe Reset, Auto-Reload Timer, EEPROM and SPI, 20-Pin PDIP, Automotive; Note: Pins 1, 2, 4 and 5 can also sink 30mA for direct LED or TRIAC drive.; Published: 26-May-2004; LatestRevisionDate: 06-Jun-2005; LatestRevisionNote: Stylized 3D Model Added.; DatasheetVersion: rev2.8, Jul-2001; PackageVersion: Jul-2003; PackageReference: PDIP20; Publisher: Altium Limited; PackageDescription: DIP; 20 Leads; Row Spacing 7.62 mm; Pitch 2.54 mm; Code_JEDEC: MS-001-AD; ComponentLink1Description: Manufacturer Link; ComponentLink1URL: http://www.st.com/; ComponentLink2Description: Datasheet; ComponentLink2URL: http://www.st.com/stonline/products/literature/ds/6215/st6260c.pdf
footprint PDIP20 (DIP; 20 Leads; Row Spacing 7.62 mm; Pitch 2.54 mm)
3D model PDIP20 (DIP; 20 Leads; Row Spacing 7.62 mm; Pitch 2.54 mm)
pins: 1 PB0 (io), 2 PB1 (io), 3 TEST/VPP (in), 4 PB2 (io), 5 PB3 (io), 6 PB6/ARTIMin (io), 7 PB7/ARTIMout (io), 8 PA0/Ain (io), 9 VDD (power), 10 VSS (power), 11 PA1/Ain (io), 12 PA2/Ain (io), 13 PA3/Ain (io), 14 OSCin (in), 15 OSCout (out), 16 ~{RESET} (in), 17 NMI (in), 18 PC4/SCK/Ain (io), 19 PC3/Sout/Ain (io), 20 PC2/Sin/Ain (io)

## ST62T60CB6
designator U?
8-Bit OTP MCU with A/D Converter, Safe Reset, Auto-Reload Timer, EEPROM and SPI, 20-Pin PDIP, Industrial; Note: Pins 1, 2, 4 and 5 can also sink 30mA for direct LED or TRIAC drive.; Published: 26-May-2004; LatestRevisionDate: 06-Jun-2005; LatestRevisionNote: Stylized 3D Model Added.; DatasheetVersion: rev2.8, Jul-2001; PackageVersion: Jul-2003; PackageReference: PDIP20; Publisher: Altium Limited; PackageDescription: DIP; 20 Leads; Row Spacing 7.62 mm; Pitch 2.54 mm; Code_JEDEC: MS-001-AD; ComponentLink1Description: Manufacturer Link; ComponentLink1URL: http://www.st.com/; ComponentLink2Description: Datasheet; ComponentLink2URL: http://www.st.com/stonline/products/literature/ds/6215/st6260c.pdf
footprint PDIP20 (DIP; 20 Leads; Row Spacing 7.62 mm; Pitch 2.54 mm)
3D model PDIP20 (DIP; 20 Leads; Row Spacing 7.62 mm; Pitch 2.54 mm)
pins: 1 PB0 (io), 2 PB1 (io), 3 TEST/VPP (in), 4 PB2 (io), 5 PB3 (io), 6 PB6/ARTIMin (io), 7 PB7/ARTIMout (io), 8 PA0/Ain (io), 9 VDD (power), 10 VSS (power), 11 PA1/Ain (io), 12 PA2/Ain (io), 13 PA3/Ain (io), 14 OSCin (in), 15 OSCout (out), 16 ~{RESET} (in), 17 NMI (in), 18 PC4/SCK/Ain (io), 19 PC3/Sout/Ain (io), 20 PC2/Sin/Ain (io)

## ST62T60CM3
designator U?
8-Bit OTP MCU with A/D Converter, Safe Reset, Auto-Reload Timer, EEPROM and SPI, 20-Pin SOIC, Automotive; Note: Pins 1, 2, 4 and 5 can also sink 30mA for direct LED or TRIAC drive.; Published: 26-May-2004; LatestRevisionDate: 13-Apr-2006; LatestRevisionNote: IPC-7351 Footprint Added.; DatasheetVersion: rev2.8, Jul-2001; PackageVersion: Jul-2001; PackageReference: SO20; Publisher: Altium Limited; PackageDescription: 20-Pin Plastic Small Outline Integrated Circuit 1.27 mm Pitch; Code_JEDEC: MS-013-AC; Code_IPC: SOIC127P1030-20; ComponentLink1Description: Manufacturer Link; ComponentLink1URL: http://www.st.com/; ComponentLink2Description: Datasheet; ComponentLink2URL: http://www.st.com/stonline/products/literature/ds/6215/st6260c.pdf
footprint SO20_N (SOIC, 20-Leads, Body 12.8x7.5mm, Pitch 1.27mm, IPC Medium Density)
footprint SO20_L (SOIC, 20-Leads, Body 12.8x7.5mm, Pitch 1.27mm, IPC High Density)
footprint SO20_M (SOIC, 20-Leads, Body 12.8x7.5mm, Pitch 1.27mm, IPC Low Density)
3D model SO20 (20-Pin Plastic Small Outline Integrated Circuit 1.27 mm Pitch)
pins: 1 PB0 (io), 2 PB1 (io), 3 TEST/VPP (in), 4 PB2 (io), 5 PB3 (io), 6 PB6/ARTIMin (io), 7 PB7/ARTIMout (io), 8 PA0/Ain (io), 9 VDD (power), 10 VSS (power), 11 PA1/Ain (io), 12 PA2/Ain (io), 13 PA3/Ain (io), 14 OSCin (in), 15 OSCout (out), 16 ~{RESET} (in), 17 NMI (in), 18 PC4/SCK/Ain (io), 19 PC3/Sout/Ain (io), 20 PC2/Sin/Ain (io)

## ST62T60CM6
designator U?
8-Bit OTP MCU with A/D Converter, Safe Reset, Auto-Reload Timer, EEPROM and SPI, 20-Pin SOIC, Industrial; Note: Pins 1, 2, 4 and 5 can also sink 30mA for direct LED or TRIAC drive.; Published: 26-May-2004; LatestRevisionDate: 13-Apr-2006; LatestRevisionNote: IPC-7351 Footprint Added.; DatasheetVersion: rev2.8, Jul-2001; PackageVersion: Jul-2001; PackageReference: SO20; Publisher: Altium Limited; PackageDescription: 20-Pin Plastic Small Outline Integrated Circuit 1.27 mm Pitch; Code_JEDEC: MS-013-AC; Code_IPC: SOIC127P1030-20; ComponentLink1Description: Manufacturer Link; ComponentLink1URL: http://www.st.com/; ComponentLink2Description: Datasheet; ComponentLink2URL: http://www.st.com/stonline/products/literature/ds/6215/st6260c.pdf
footprint SO20_N (SOIC, 20-Leads, Body 12.8x7.5mm, Pitch 1.27mm, IPC Medium Density)
footprint SO20_L (SOIC, 20-Leads, Body 12.8x7.5mm, Pitch 1.27mm, IPC High Density)
footprint SO20_M (SOIC, 20-Leads, Body 12.8x7.5mm, Pitch 1.27mm, IPC Low Density)
3D model SO20 (20-Pin Plastic Small Outline Integrated Circuit 1.27 mm Pitch)
pins: 1 PB0 (io), 2 PB1 (io), 3 TEST/VPP (in), 4 PB2 (io), 5 PB3 (io), 6 PB6/ARTIMin (io), 7 PB7/ARTIMout (io), 8 PA0/Ain (io), 9 VDD (power), 10 VSS (power), 11 PA1/Ain (io), 12 PA2/Ain (io), 13 PA3/Ain (io), 14 OSCin (in), 15 OSCout (out), 16 ~{RESET} (in), 17 NMI (in), 18 PC4/SCK/Ain (io), 19 PC3/Sout/Ain (io), 20 PC2/Sin/Ain (io)

## ST62T62CB3
designator U?
8-Bit OTP MCU with A/D Converter, Safe Reset, Auto-Reload Timer and EEPROM, 16-Pin PDIP, Automotive; Note: Pins 3 to 5 can also sink 20mA for direct LED or TRIAC drive.; Published: 26-May-2004; LatestRevisionDate: 06-Jun-2005; LatestRevisionNote: Stylized 3D Model Added.; DatasheetVersion: rev3.0, Feb-2002; PackageVersion: Dec-2003; PackageReference: PDIP16; Publisher: Altium Limited; PackageDescription: DIP; 16 Leads; Row Spacing 7.62 mm; Pitch 2.54 mm; ComponentLink1Description: Manufacturer Link; ComponentLink1URL: http://www.st.com/; ComponentLink2Description: Datasheet; ComponentLink2URL: http://www.st.com/stonline/products/literature/ds/6217/st6262c.pdf
footprint PDIP16 (DIP; 16 Leads; Row Spacing 7.62 mm; Pitch 2.54 mm)
3D model PDIP16 (DIP; 16 Leads; Row Spacing 7.62 mm; Pitch 2.54 mm)
pins: 1 PB0 (io), 2 TEST/VPP (in), 3 PB2 (io), 4 PB3 (io), 5 PB6/ARTIMin (io), 6 PB7/ARTIMout (io), 7 VDD (power), 8 VSS (power), 9 PA4/Ain (io), 10 PA5/Ain (io), 11 OSCin (in), 12 OSCout (out), 13 ~{RESET} (in), 14 NMI (in), 15 PC3/Ain (io), 16 PC2/Ain (io)

## ST62T62CB6
designator U?
8-Bit OTP MCU with A/D Converter, Safe Reset, Auto-Reload Timer and EEPROM, 16-Pin PDIP, Industrial; Note: Pins 3 to 5 can also sink 20mA for direct LED or TRIAC drive.; Published: 26-May-2004; LatestRevisionDate: 06-Jun-2005; LatestRevisionNote: Stylized 3D Model Added.; DatasheetVersion: rev3.0, Feb-2002; PackageVersion: Dec-2003; PackageReference: PDIP16; Publisher: Altium Limited; PackageDescription: DIP; 16 Leads; Row Spacing 7.62 mm; Pitch 2.54 mm; ComponentLink1Description: Manufacturer Link; ComponentLink1URL: http://www.st.com/; ComponentLink2Description: Datasheet; ComponentLink2URL: http://www.st.com/stonline/products/literature/ds/6217/st6262c.pdf
footprint PDIP16 (DIP; 16 Leads; Row Spacing 7.62 mm; Pitch 2.54 mm)
3D model PDIP16 (DIP; 16 Leads; Row Spacing 7.62 mm; Pitch 2.54 mm)
pins: 1 PB0 (io), 2 TEST/VPP (in), 3 PB2 (io), 4 PB3 (io), 5 PB6/ARTIMin (io), 6 PB7/ARTIMout (io), 7 VDD (power), 8 VSS (power), 9 PA4/Ain (io), 10 PA5/Ain (io), 11 OSCin (in), 12 OSCout (out), 13 ~{RESET} (in), 14 NMI (in), 15 PC3/Ain (io), 16 PC2/Ain (io)

## ST62T62CM3
designator U?
8-Bit OTP MCU with A/D Converter, Safe Reset, Auto-Reload Timer and EEPROM, 16-Pin SOIC, Automotive; Note: Pins 3 to 5 can also sink 20mA for direct LED or TRIAC drive.; Published: 26-May-2004; LatestRevisionDate: 13-Apr-2006; LatestRevisionNote: IPC-7351 Footprint Added.; DatasheetVersion: rev3.0, Feb-2002; PackageVersion: Apr-1998; PackageReference: SO16W; Publisher: Altium Limited; PackageDescription: 16-Pin Small Outline Integrated Circuit 1.27 mm Pitch; Code_JEDEC: MS-013-AA; Code_IPC: SOIC127P1030-16; ComponentLink1Description: Manufacturer Link; ComponentLink1URL: http://www.st.com/; ComponentLink2Description: Datasheet; ComponentLink2URL: http://www.st.com/stonline/products/literature/ds/6217/st6262c.pdf
footprint SO16W_N (SOIC, 16-Leads, Body 10.3x7.5mm, Pitch 1.27mm, IPC Medium Density)
footprint SO16W_L (SOIC, 16-Leads, Body 10.3x7.5mm, Pitch 1.27mm, IPC High Density)
footprint SO16W_M (SOIC, 16-Leads, Body 10.3x7.5mm, Pitch 1.27mm, IPC Low Density)
3D model SO16W (16-Pin Small Outline Integrated Circuit 1.27 mm Pitch)
pins: 1 PB0 (io), 2 TEST/VPP (in), 3 PB2 (io), 4 PB3 (io), 5 PB6/ARTIMin (io), 6 PB7/ARTIMout (io), 7 VDD (power), 8 VSS (power), 9 PA4/Ain (io), 10 PA5/Ain (io), 11 OSCin (in), 12 OSCout (out), 13 ~{RESET} (in), 14 NMI (in), 15 PC3/Ain (io), 16 PC2/Ain (io)

## ST62T62CM6
designator U?
8-Bit OTP MCU with A/D Converter, Safe Reset, Auto-Reload Timer and EEPROM, 16-Pin SOIC, Industrial; Note: Pins 3 to 5 can also sink 20mA for direct LED or TRIAC drive.; Published: 26-May-2004; LatestRevisionDate: 13-Apr-2006; LatestRevisionNote: IPC-7351 Footprint Added.; DatasheetVersion: rev3.0, Feb-2002; PackageVersion: Apr-1998; PackageReference: SO16W; Publisher: Altium Limited; PackageDescription: 16-Pin Small Outline Integrated Circuit 1.27 mm Pitch; Code_JEDEC: MS-013-AA; Code_IPC: SOIC127P1030-16; ComponentLink1Description: Manufacturer Link; ComponentLink1URL: http://www.st.com/; ComponentLink2Description: Datasheet; ComponentLink2URL: http://www.st.com/stonline/products/literature/ds/6217/st6262c.pdf
footprint SO16W_N (SOIC, 16-Leads, Body 10.3x7.5mm, Pitch 1.27mm, IPC Medium Density)
footprint SO16W_L (SOIC, 16-Leads, Body 10.3x7.5mm, Pitch 1.27mm, IPC High Density)
footprint SO16W_M (SOIC, 16-Leads, Body 10.3x7.5mm, Pitch 1.27mm, IPC Low Density)
3D model SO16W (16-Pin Small Outline Integrated Circuit 1.27 mm Pitch)
pins: 1 PB0 (io), 2 TEST/VPP (in), 3 PB2 (io), 4 PB3 (io), 5 PB6/ARTIMin (io), 6 PB7/ARTIMout (io), 7 VDD (power), 8 VSS (power), 9 PA4/Ain (io), 10 PA5/Ain (io), 11 OSCin (in), 12 OSCout (out), 13 ~{RESET} (in), 14 NMI (in), 15 PC3/Ain (io), 16 PC2/Ain (io)

## ST62T62CN3
designator U?
8-Bit OTP MCU with A/D Converter, Safe Reset, Auto-Reload Timer and EEPROM, 16-Pin SSOP, Automotive; Note: Pins 3 to 5 can also sink 20mA for direct LED or TRIAC drive.; Published: 26-May-2004; LatestRevisionDate: 06-Jun-2005; LatestRevisionNote: Stylized 3D Model Added.; DatasheetVersion: rev3.0, Feb-2002; PackageVersion: Oct-2003; PackageReference: SSOP16; Publisher: Altium Limited; PackageDescription: SSOP, Plastic; 16 Leads; Body Width 5.3 mm; Pitch 0.65 mm; ComponentLink1Description: Manufacturer Link; ComponentLink1URL: http://www.st.com/; ComponentLink2Description: Datasheet; ComponentLink2URL: http://www.st.com/stonline/products/literature/ds/6217/st6262c.pdf
footprint SSOP16 (SSOP, Plastic; 16 Leads; Body Width 5.3 mm; Pitch 0.65 mm)
3D model SSOP16 (SSOP, Plastic; 16 Leads; Body Width 5.3 mm; Pitch 0.65 mm)
pins: 1 PB0 (io), 2 TEST/VPP (in), 3 PB2 (io), 4 PB3 (io), 5 PB6/ARTIMin (io), 6 PB7/ARTIMout (io), 7 VDD (power), 8 VSS (power), 9 PA4/Ain (io), 10 PA5/Ain (io), 11 OSCin (in), 12 OSCout (out), 13 ~{RESET} (in), 14 NMI (in), 15 PC3/Ain (io), 16 PC2/Ain (io)

## ST62T62CN6
designator U?
8-Bit OTP MCU with A/D Converter, Safe Reset, Auto-Reload Timer and EEPROM, 16-Pin SSOP, Industrial; Note: Pins 3 to 5 can also sink 20mA for direct LED or TRIAC drive.; Published: 26-May-2004; LatestRevisionDate: 06-Jun-2005; LatestRevisionNote: Stylized 3D Model Added.; DatasheetVersion: rev3.0, Feb-2002; PackageVersion: Oct-2003; PackageReference: SSOP16; Publisher: Altium Limited; PackageDescription: SSOP, Plastic; 16 Leads; Body Width 5.3 mm; Pitch 0.65 mm; ComponentLink1Description: Manufacturer Link; ComponentLink1URL: http://www.st.com/; ComponentLink2Description: Datasheet; ComponentLink2URL: http://www.st.com/stonline/products/literature/ds/6217/st6262c.pdf
footprint SSOP16 (SSOP, Plastic; 16 Leads; Body Width 5.3 mm; Pitch 0.65 mm)
3D model SSOP16 (SSOP, Plastic; 16 Leads; Body Width 5.3 mm; Pitch 0.65 mm)
pins: 1 PB0 (io), 2 TEST/VPP (in), 3 PB2 (io), 4 PB3 (io), 5 PB6/ARTIMin (io), 6 PB7/ARTIMout (io), 7 VDD (power), 8 VSS (power), 9 PA4/Ain (io), 10 PA5/Ain (io), 11 OSCin (in), 12 OSCout (out), 13 ~{RESET} (in), 14 NMI (in), 15 PC3/Ain (io), 16 PC2/Ain (io)

## ST62T63CB6
designator U?
8-Bit OTP MCU with A/D Converter, Safe Reset, Auto-Reload Timer, EEPROM and SPI, 20-Pin PDIP, Industrial; Note: Pins 1, 2, 4 and 5 can also sink 30mA for direct LED or TRIAC drive.; Published: 26-May-2004; LatestRevisionDate: 06-Jun-2005; LatestRevisionNote: Stylized 3D Model Added.; DatasheetVersion: rev2.8, Jul-2001; PackageVersion: Jul-2003; PackageReference: PDIP20; Publisher: Altium Limited; PackageDescription: DIP; 20 Leads; Row Spacing 7.62 mm; Pitch 2.54 mm; Code_JEDEC: MS-001-AD; ComponentLink1Description: Manufacturer Link; ComponentLink1URL: http://www.st.com/; ComponentLink2Description: Datasheet; ComponentLink2URL: http://www.st.com/stonline/products/literature/ds/6215/st6263c.pdf
footprint PDIP20 (DIP; 20 Leads; Row Spacing 7.62 mm; Pitch 2.54 mm)
3D model PDIP20 (DIP; 20 Leads; Row Spacing 7.62 mm; Pitch 2.54 mm)
pins: 1 PB0 (io), 2 PB1 (io), 3 TEST/VPP (in), 4 PB2 (io), 5 PB3 (io), 6 PB6/ARTIMin (io), 7 PB7/ARTIMout (io), 8 PA0/Ain (io), 9 VDD (power), 10 VSS (power), 11 PA1/Ain (io), 12 PA2/Ain (io), 13 PA3/Ain (io), 14 OSCin (in), 15 OSCout (out), 16 ~{RESET} (in), 17 NMI (in), 18 PC4/SCK/Ain (io), 19 PC3/Sout/Ain (io), 20 PC2/Sin/Ain (io)

## ST62T63CM6
designator U?
8-Bit OTP MCU with A/D Converter, Safe Reset, Auto-Reload Timer, EEPROM and SPI, 20-Pin SOIC, Industrial; Note: Pins 1, 2, 4 and 5 can also sink 30mA for direct LED or TRIAC drive.; Published: 26-May-2004; LatestRevisionDate: 13-Apr-2006; LatestRevisionNote: IPC-7351 Footprint Added.; DatasheetVersion: rev2.8, Jul-2001; PackageVersion: Jul-2001; PackageReference: SO20; Publisher: Altium Limited; PackageDescription: 20-Pin Plastic Small Outline Integrated Circuit 1.27 mm Pitch; Code_JEDEC: MS-013-AC; Code_IPC: SOIC127P1030-20; ComponentLink1Description: Manufacturer Link; ComponentLink1URL: http://www.st.com/; ComponentLink2Description: Datasheet; ComponentLink2URL: http://www.st.com/stonline/products/literature/ds/6215/st6263c.pdf
footprint SO20_N (SOIC, 20-Leads, Body 12.8x7.5mm, Pitch 1.27mm, IPC Medium Density)
footprint SO20_L (SOIC, 20-Leads, Body 12.8x7.5mm, Pitch 1.27mm, IPC High Density)
footprint SO20_M (SOIC, 20-Leads, Body 12.8x7.5mm, Pitch 1.27mm, IPC Low Density)
3D model SO20 (20-Pin Plastic Small Outline Integrated Circuit 1.27 mm Pitch)
pins: 1 PB0 (io), 2 PB1 (io), 3 TEST/VPP (in), 4 PB2 (io), 5 PB3 (io), 6 PB6/ARTIMin (io), 7 PB7/ARTIMout (io), 8 PA0/Ain (io), 9 VDD (power), 10 VSS (power), 11 PA1/Ain (io), 12 PA2/Ain (io), 13 PA3/Ain (io), 14 OSCin (in), 15 OSCout (out), 16 ~{RESET} (in), 17 NMI (in), 18 PC4/SCK/Ain (io), 19 PC3/Sout/Ain (io), 20 PC2/Sin/Ain (io)

## ST62T65BB6
designator U?
8-Bit OTP HCMOS MCU with A/D CONVERTER, Auto-Reload Timer, EEPROM and SPI; Published: 24-Aug-2001; LatestRevisionDate: 06-Jun-2005; LatestRevisionNote: Stylized 3D Model Added.; DatasheetVersion: Mar-1998; PackageVersion: Jan-2003; PackageReference: PDIP28; Publisher: Altium Limited; PackageDescription: DIP; 28 Leads; Row Spacing 15.24 mm; Pitch 2.54 mm; ComponentLink1Description: Manufacturer Link; ComponentLink1URL: http://www.st.com/
footprint PDIP28 (DIP; 28 Leads; Row Spacing 15.24 mm; Pitch 2.54 mm)
3D model PDIP28 (DIP; 28 Leads; Row Spacing 15.24 mm; Pitch 2.54 mm)
pins: 1 PB0 (io), 2 PB1 (io), 3 TEST/VPP (in), 4 PB2 (io), 5 PB3 (io), 6 PB4 (io), 7 PB5 (io), 8 PB6/ARTIMin (io), 9 PB7/ARTIMout (io), 10 PA0/Ain (io), 11 VDD (power), 12 VSS (power), 13 PA1/Ain (io), 14 PA2/Ain (io), 15 PA3/Ain (io), 16 PA4/Ain (io), 17 PA5/Ain (io), 18 PA6/Ain (io), 19 PA7/Ain (io), 20 OSCin (in), 21 OSCout (out), 22 ~{RESET} (in), 23 NMI (in), 24 PC4/SCK/Ain (io), 25 PC3/Sout/Ain (io), 26 PC2/Sin/Ain (io), 27 PC1/TIM1/Ain (io), 28 PC0/Ain (io)

## ST62T65BM6
designator U?
8-Bit OTP HCMOS MCU with A/D CONVERTER, Auto-Reload Timer, EEPROM and SPI; Published: 24-Aug-2001; LatestRevisionDate: 13-Apr-2006; LatestRevisionNote: IPC-7351 Footprint Added.; DatasheetVersion: Mar-1998; PackageVersion: Jul-2001; PackageReference: SO28; Publisher: Altium Limited; PackageDescription: 28-Pin Plastic Small Outline Integrated Circuit 1.27 mm Pitch; ComponentLink1Description: Manufacturer Link; ComponentLink1URL: http://www.st.com/
footprint SO28_N (SOIC, 28-Leads, Body 17.9x7.5mm, Pitch 1.27mm, IPC Medium Density)
footprint SO28_L (SOIC, 28-Leads, Body 17.9x7.5mm, Pitch 1.27mm, IPC High Density)
footprint SO28_M (SOIC, 28-Leads, Body 17.9x7.5mm, Pitch 1.27mm, IPC Low Density)
3D model SO28 (28-Pin Plastic Small Outline Integrated Circuit 1.27 mm Pitch)
pins: 1 PB0 (io), 2 PB1 (io), 3 TEST/VPP (in), 4 PB2 (io), 5 PB3 (io), 6 PB4 (io), 7 PB5 (io), 8 PB6/ARTIMin (io), 9 PB7/ARTIMout (io), 10 PA0/Ain (io), 11 VDD (power), 12 VSS (power), 13 PA1/Ain (io), 14 PA2/Ain (io), 15 PA3/Ain (io), 16 PA4/Ain (io), 17 PA5/Ain (io), 18 PA6/Ain (io), 19 PA7/Ain (io), 20 OSCin (in), 21 OSCout (out), 22 ~{RESET} (in), 23 NMI (in), 24 PC4/SCK/Ain (io), 25 PC3/Sout/Ain (io), 26 PC2/Sin/Ain (io), 27 PC1/TIM1/Ain (io), 28 PC0/Ain (io)

## ST62T65CB3
designator U?
8-Bit OTP MCU with A/D Converter, Safe Reset, Auto-Reload Timer, EEPROM and SPI, 28-Pin PDIP, Automotive; Note: Pins 1, 2 and 4-7 can also sink 30mA for direct LED or TRIAC drive.; Published: 26-May-2004; LatestRevisionDate: 06-Jun-2005; LatestRevisionNote: Stylized 3D Model Added.; DatasheetVersion: rev2.9, Jul-2001; PackageVersion: Oct-2003; PackageReference: DIP28; Publisher: Altium Limited; PackageDescription: DIP; 28 Leads; Row Spacing 15.24 mm; Pitch 2.54 mm; Code_JEDEC: MS-011-AB; ComponentLink1Description: Manufacturer Link; ComponentLink1URL: http://www.st.com/; ComponentLink2Description: Datasheet; ComponentLink2URL: http://www.st.com/stonline/products/literature/ds/6220/st6265c.pdf
footprint DIP28 (DIP; 28 Leads; Row Spacing 15.24 mm; Pitch 2.54 mm)
3D model DIP28 (DIP; 28 Leads; Row Spacing 15.24 mm; Pitch 2.54 mm)
pins: 1 PB0 (io), 2 PB1 (io), 3 TEST/VPP (in), 4 PB2 (io), 5 PB3 (io), 6 PB4 (io), 7 PB5 (io), 8 PB6/ARTIMin (io), 9 PB7/ARTIMout (io), 10 PA0/Ain (io), 11 VDD (power), 12 VSS (power), 13 PA1/Ain (io), 14 PA2/Ain (io), 15 PA3/Ain (io), 16 PA4/Ain (io), 17 PA5/Ain (io), 18 PA6/Ain (io), 19 PA7/Ain (io), 20 OSCin (in), 21 OSCout (out), 22 ~{RESET} (in), 23 NMI (in), 24 PC4/SCK/Ain (io), 25 PC3/Sout/Ain (io), 26 PC2/Sin/Ain (io), 27 PC1/TIM1/Ain (io), 28 PC0/Ain (io)

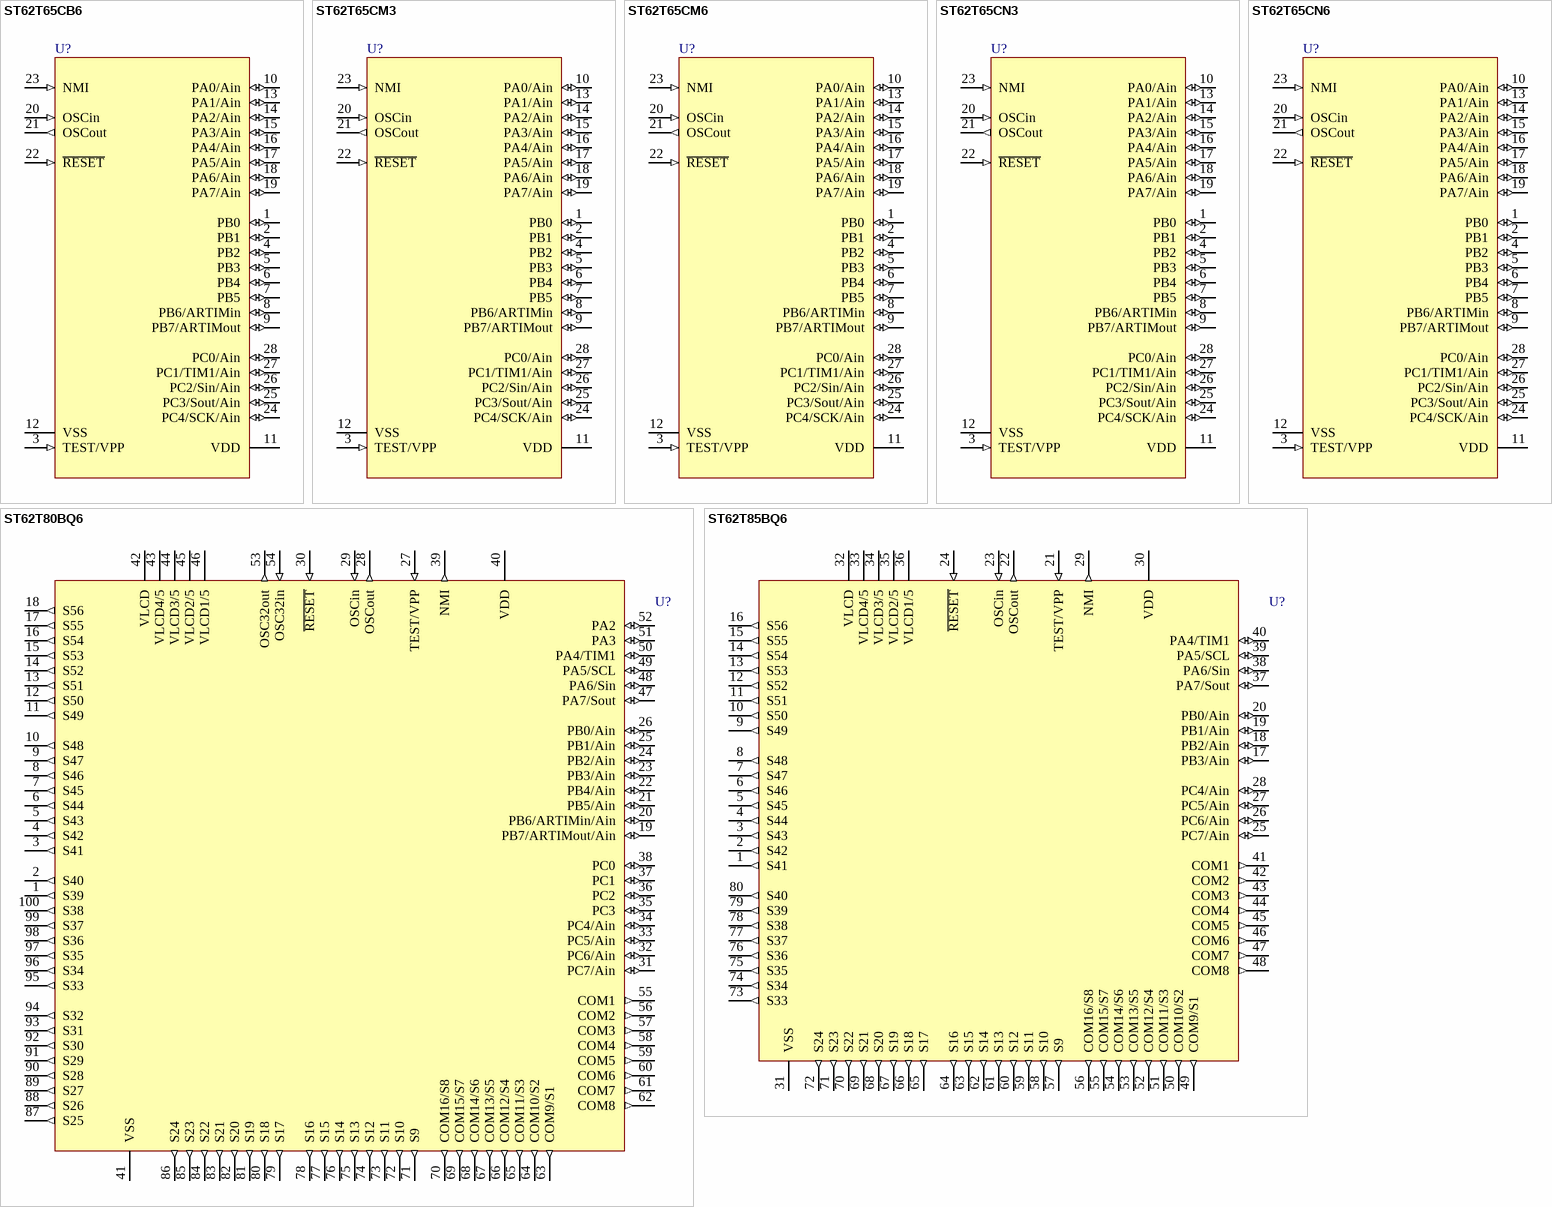
[diagram p20: symbols ST62T65CB6 to ST62T85BQ6]

## ST62T65CB6
designator U?
8-Bit OTP MCU with A/D Converter, Safe Reset, Auto-Reload Timer, EEPROM and SPI, 28-Pin PDIP, Industrial; Note: Pins 1, 2 and 4-7 can also sink 30mA for direct LED or TRIAC drive.; Published: 26-May-2004; LatestRevisionDate: 06-Jun-2005; LatestRevisionNote: Stylized 3D Model Added.; DatasheetVersion: rev2.9, Jul-2001; PackageVersion: Oct-2003; PackageReference: DIP28; Publisher: Altium Limited; PackageDescription: DIP; 28 Leads; Row Spacing 15.24 mm; Pitch 2.54 mm; Code_JEDEC: MS-011-AB; ComponentLink1Description: Manufacturer Link; ComponentLink1URL: http://www.st.com/; ComponentLink2Description: Datasheet; ComponentLink2URL: http://www.st.com/stonline/products/literature/ds/6220/st6265c.pdf
footprint DIP28 (DIP; 28 Leads; Row Spacing 15.24 mm; Pitch 2.54 mm)
3D model DIP28 (DIP; 28 Leads; Row Spacing 15.24 mm; Pitch 2.54 mm)
pins: 1 PB0 (io), 2 PB1 (io), 3 TEST/VPP (in), 4 PB2 (io), 5 PB3 (io), 6 PB4 (io), 7 PB5 (io), 8 PB6/ARTIMin (io), 9 PB7/ARTIMout (io), 10 PA0/Ain (io), 11 VDD (power), 12 VSS (power), 13 PA1/Ain (io), 14 PA2/Ain (io), 15 PA3/Ain (io), 16 PA4/Ain (io), 17 PA5/Ain (io), 18 PA6/Ain (io), 19 PA7/Ain (io), 20 OSCin (in), 21 OSCout (out), 22 ~{RESET} (in), 23 NMI (in), 24 PC4/SCK/Ain (io), 25 PC3/Sout/Ain (io), 26 PC2/Sin/Ain (io), 27 PC1/TIM1/Ain (io), 28 PC0/Ain (io)

## ST62T65CM3
designator U?
8-Bit OTP MCU with A/D Converter, Safe Reset, Auto-Reload Timer, EEPROM and SPI, 28-Pin SOIC, Automotive; Note: Pins 1, 2 and 4-7 can also sink 30mA for direct LED or TRIAC drive.; Published: 26-May-2004; LatestRevisionDate: 13-Apr-2006; LatestRevisionNote: IPC-7351 Footprint Added.; DatasheetVersion: rev2.9, Jul-2001; PackageVersion: Jul-2001; PackageReference: SO28; Publisher: Altium Limited; PackageDescription: 28-Pin Plastic Small Outline Integrated Circuit 1.27 mm Pitch; ComponentLink1Description: Manufacturer Link; ComponentLink1URL: http://www.st.com/; ComponentLink2Description: Datasheet; ComponentLink2URL: http://www.st.com/stonline/products/literature/ds/6220/st6265c.pdf
footprint SO28_N (SOIC, 28-Leads, Body 17.9x7.5mm, Pitch 1.27mm, IPC Medium Density)
footprint SO28_L (SOIC, 28-Leads, Body 17.9x7.5mm, Pitch 1.27mm, IPC High Density)
footprint SO28_M (SOIC, 28-Leads, Body 17.9x7.5mm, Pitch 1.27mm, IPC Low Density)
3D model SO28 (28-Pin Plastic Small Outline Integrated Circuit 1.27 mm Pitch)
pins: 1 PB0 (io), 2 PB1 (io), 3 TEST/VPP (in), 4 PB2 (io), 5 PB3 (io), 6 PB4 (io), 7 PB5 (io), 8 PB6/ARTIMin (io), 9 PB7/ARTIMout (io), 10 PA0/Ain (io), 11 VDD (power), 12 VSS (power), 13 PA1/Ain (io), 14 PA2/Ain (io), 15 PA3/Ain (io), 16 PA4/Ain (io), 17 PA5/Ain (io), 18 PA6/Ain (io), 19 PA7/Ain (io), 20 OSCin (in), 21 OSCout (out), 22 ~{RESET} (in), 23 NMI (in), 24 PC4/SCK/Ain (io), 25 PC3/Sout/Ain (io), 26 PC2/Sin/Ain (io), 27 PC1/TIM1/Ain (io), 28 PC0/Ain (io)

## ST62T65CM6
designator U?
8-Bit OTP MCU with A/D Converter, Safe Reset, Auto-Reload Timer, EEPROM and SPI, 28-Pin SOIC, Industrial; Note: Pins 1, 2 and 4-7 can also sink 30mA for direct LED or TRIAC drive.; Published: 26-May-2004; LatestRevisionDate: 13-Apr-2006; LatestRevisionNote: IPC-7351 Footprint Added.; DatasheetVersion: rev2.9, Jul-2001; PackageVersion: Jul-2001; PackageReference: SO28; Publisher: Altium Limited; PackageDescription: 28-Pin Plastic Small Outline Integrated Circuit 1.27 mm Pitch; ComponentLink1Description: Manufacturer Link; ComponentLink1URL: http://www.st.com/; ComponentLink2Description: Datasheet; ComponentLink2URL: http://www.st.com/stonline/products/literature/ds/6220/st6265c.pdf
footprint SO28_N (SOIC, 28-Leads, Body 17.9x7.5mm, Pitch 1.27mm, IPC Medium Density)
footprint SO28_L (SOIC, 28-Leads, Body 17.9x7.5mm, Pitch 1.27mm, IPC High Density)
footprint SO28_M (SOIC, 28-Leads, Body 17.9x7.5mm, Pitch 1.27mm, IPC Low Density)
3D model SO28 (28-Pin Plastic Small Outline Integrated Circuit 1.27 mm Pitch)
pins: 1 PB0 (io), 2 PB1 (io), 3 TEST/VPP (in), 4 PB2 (io), 5 PB3 (io), 6 PB4 (io), 7 PB5 (io), 8 PB6/ARTIMin (io), 9 PB7/ARTIMout (io), 10 PA0/Ain (io), 11 VDD (power), 12 VSS (power), 13 PA1/Ain (io), 14 PA2/Ain (io), 15 PA3/Ain (io), 16 PA4/Ain (io), 17 PA5/Ain (io), 18 PA6/Ain (io), 19 PA7/Ain (io), 20 OSCin (in), 21 OSCout (out), 22 ~{RESET} (in), 23 NMI (in), 24 PC4/SCK/Ain (io), 25 PC3/Sout/Ain (io), 26 PC2/Sin/Ain (io), 27 PC1/TIM1/Ain (io), 28 PC0/Ain (io)

## ST62T65CN3
designator U?
8-Bit OTP MCU with A/D Converter, Safe Reset, Auto-Reload Timer, EEPROM and SPI, 28-Pin SSOP, Automotive; Note: Pins 1, 2 and 4-7 can also sink 30mA for direct LED or TRIAC drive.; Published: 26-May-2004; LatestRevisionDate: 06-Jun-2005; LatestRevisionNote: Stylized 3D Model Added.; DatasheetVersion: rev2.9, Jul-2001; PackageVersion: Jul-2001; PackageReference: SSOP28W; Publisher: Altium Limited; PackageDescription: SSOP, Plastic; 28 Leads; Body Width 5.3 mm; Pitch 0.65 mm; ComponentLink1Description: Manufacturer Link; ComponentLink1URL: http://www.st.com/; ComponentLink2Description: Datasheet; ComponentLink2URL: http://www.st.com/stonline/products/literature/ds/6220/st6265c.pdf
footprint SSOP28W (SSOP, Plastic; 28 Leads; Body Width 5.3 mm; Pitch 0.65 mm)
3D model SSOP28W (SSOP, Plastic; 28 Leads; Body Width 5.3 mm; Pitch 0.65 mm)
pins: 1 PB0 (io), 2 PB1 (io), 3 TEST/VPP (in), 4 PB2 (io), 5 PB3 (io), 6 PB4 (io), 7 PB5 (io), 8 PB6/ARTIMin (io), 9 PB7/ARTIMout (io), 10 PA0/Ain (io), 11 VDD (power), 12 VSS (power), 13 PA1/Ain (io), 14 PA2/Ain (io), 15 PA3/Ain (io), 16 PA4/Ain (io), 17 PA5/Ain (io), 18 PA6/Ain (io), 19 PA7/Ain (io), 20 OSCin (in), 21 OSCout (out), 22 ~{RESET} (in), 23 NMI (in), 24 PC4/SCK/Ain (io), 25 PC3/Sout/Ain (io), 26 PC2/Sin/Ain (io), 27 PC1/TIM1/Ain (io), 28 PC0/Ain (io)